# Altium schematic symbol library LCD_1.47_172_320_2022-03-14.SCHLIB: 1 symbol
Pins are listed as number, name and electrical type; pins without a type are passive.

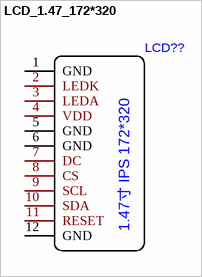
[diagram p0: symbol LCD_1.47_172*320]

## LCD_1.47_172*320
designator LCD??
footprint LCD_1.47_172*320_TOP
pins: 1 GND, 2 LEDK, 3 LEDA, 4 VDD, 5 GND, 6 GND, 7 DC, 8 CS, 9 SCL, 10 SDA, 11 RESET, 12 GND
text: 1.47寸 IPS 172*320